# Altium footprint library CDC3S04YFFR.PcbLib: 1 footprints
Each footprint in its own frame and in the unit in brackets; x right, y up, seen from the top. Pads: shape width x height; smd on the part's side, far side on the other; paste and mask are expansions set on the pad; w line width, h text height; cw(c..) or ccw(c..) is an arc to the next point about the centre after c.
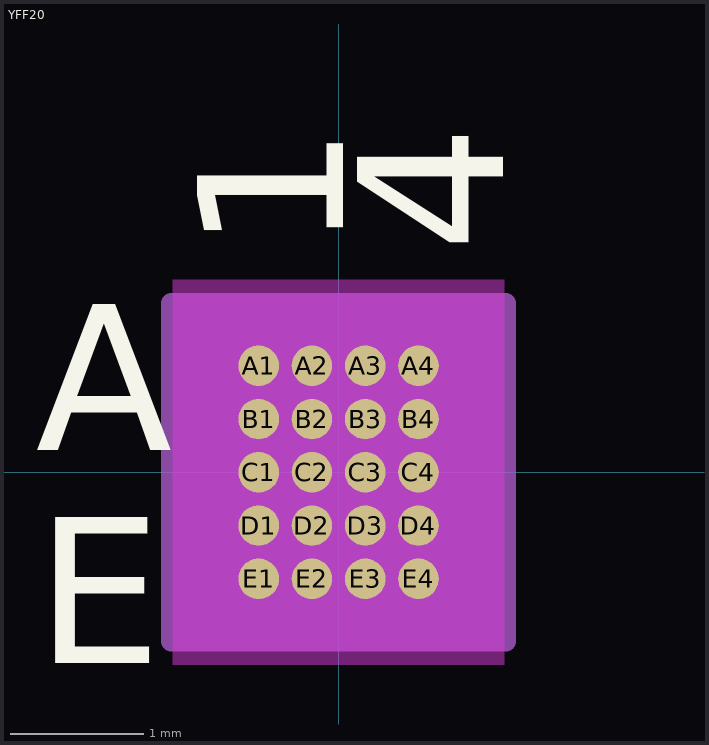
[diagram p0: the footprint, top view; thin cyan lines are the x and y axes]

## YFF20 [mil]
pads (20):
  round 12 smd paste-6 mask-6: A1(-23.62,31.5) A2(-7.87,31.5) A3(7.87,31.5) A4(23.62,31.5) B1(-23.62,15.75) B2(-7.87,15.75) B3(7.87,15.75) B4(23.62,15.75) C1(-23.62,0) C2(-7.87,0) C3(7.87,0) C4(23.62,0) D1(-23.62,-15.75) D2(-7.87,-15.75) D3(7.87,-15.75) D4(23.62,-15.75) E1(-23.62,-31.5) E2(-7.87,-31.5) E3(7.87,-31.5) E4(23.62,-31.5)
Top Overlay:
  text "A" at -89.5,6.5 h50
  text "E" at -89.5,-56.5 h50
  text "1" at 1.38,65 h50
  text "4" at 48.62,65 h50
Bottom Overlay:
  text "A" at -64.5,6.5 h50
  text "E" at -64.5,-56.5 h50
  text "1" at -48.62,65 h50
  text "4" at -1.38,65 h50
Keep-Out Layer:
  region: -49,-56.87 -49,56.87 49,56.87 49,-56.87
Mechanical 13:
  lines w1: -39.5,32.13 -31.63,40 ; -39.5,-40 39.5,-40 39.5,40 -39.5,40 -39.5,-40
  text "A" at -89.5,6.5 h50
  text "E" at -89.5,-56.5 h50
  text "1" at 1.38,65 h50
  text "4" at 48.62,65 h50
Mechanical 15:
  region: 49.5,-50 -49.5,-50 -49.5,50 49.5,50
  lines w6: -49.5,-50 -49.5,50 49.5,50 49.5,-50 -49.5,-50
3D body "YFF20.step": height 50.12, standoff -0.02, extent -39.49,-40 39.49,40